# EAGLE library part AB0815-T3 (library RTC)
IC RTC CLK/CALENDAR SPI 16-QFN Manufacturer's datasheet <https://abracon.com/Support/AppsManuals/Precisiontiming/AB08XX-Application-Manual.pdf>
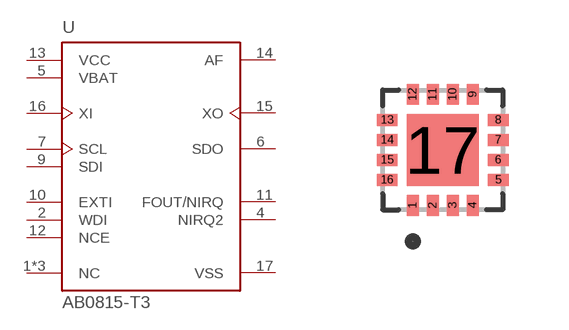
[diagram p8: symbol with the pads of AB0815-T3; footprint AB0815-T3]

Designator prefix U

## AB0815-T3 (CREATED_BY: PCBLayout.com; DIGIKEY_PARTNO: 535-11930-1-ND; MANUFACTURER: Abracon LLC; MPN: AB0815-T3; PACKAGE: 16-QFN)  [AB0815-T3]
1  NC  pas
2  WDI  in
3  NC  pas
4  NIRQ2  out
5  VBAT  pwr
6  SDO  out
7  SCL  in
8  NC  pas
9  SDI  in
10  EXTI  in
11  FOUT/NIRQ  out
12  NCE
13  VCC  pwr
14  AF  out
15  XO  out
16  XI  in
17  VSS  pwr

## Footprint AB0815-T3 (pad centres in mm)
smd 0.3 x 0.52: 1 -0.75,-1.39; 2 -0.25,-1.39; 3 0.25,-1.39; 4 0.75,-1.39; 9 0.75,1.39; 10 0.25,1.39; 11 -0.25,1.39; 12 -0.75,1.39
smd 0.52 x 0.3: 5 1.39,-0.75; 6 1.39,-0.25; 7 1.39,0.25; 8 1.39,0.75; 13 -1.39,0.75; 14 -1.39,0.25; 15 -1.39,-0.25; 16 -1.39,-0.75
smd 1.8 x 1.8: 17 0,0